# Altium schematic symbol library 532610471.SchLib: 1 symbol
Pins are listed as number, name and electrical type; pins without a type are passive.

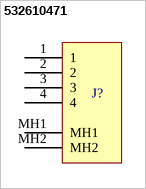
[diagram p0: symbol 532610471]

## 532610471
designator J?  (value not drawn)
Molex Picoblade $4-pin connector
pins: 1, 2, 3, 4, MH1 (power), MH2 (power)